# Altium footprint library TSSOP-20(6.5X4.4).PcbLib: 1 footprints
Each footprint in its own frame and in the unit in brackets; x right, y up, seen from the top. Pads: shape width x height; smd on the part's side, far side on the other; paste and mask are expansions set on the pad; w line width, h text height; cw(c..) or ccw(c..) is an arc to the next point about the centre after c.
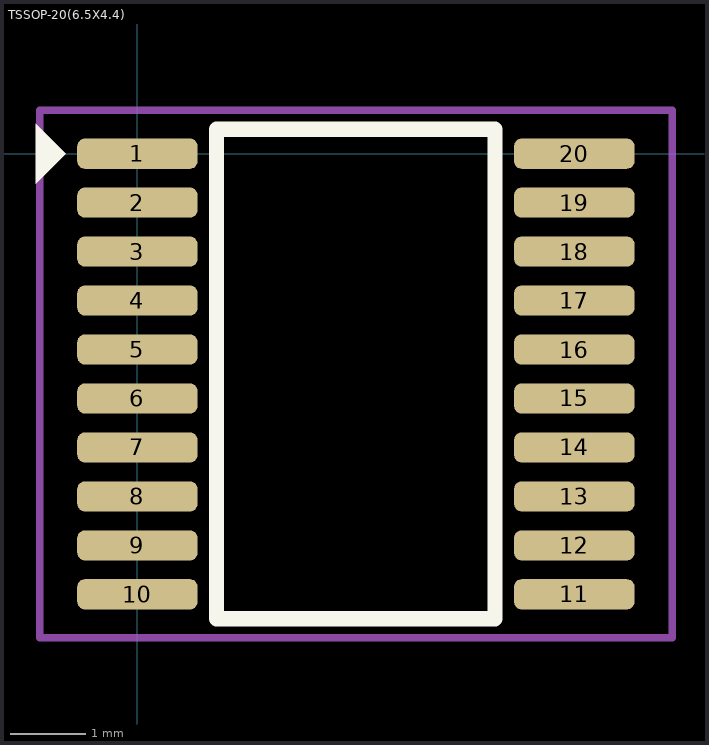
[diagram p0: the footprint, top view; thin cyan lines are the x and y axes]

## TSSOP-20(6.5X4.4) [mm]
pads (20):
  rrect50% 1.6x0.4 smd: 1(0,0) 2(0,-0.65) 3(0,-1.3) 4(0,-1.95) 5(0,-2.6) 6(0,-3.25) 7(0,-3.9) 8(0,-4.55) 9(0,-5.2) 10(0,-5.85) 11(5.8,-5.85) 12(5.8,-5.2) 13(5.8,-4.55) 14(5.8,-3.9) 15(5.8,-3.25) 16(5.8,-2.6) 17(5.8,-1.95) 18(5.8,-1.3) 19(5.8,-0.65) 20(5.8,0)
Top Overlay:
  region: -1.35,-0.4 -1.35,0.4 -0.95,0
  lines w0.2: 1.05,-6.175 4.75,-6.175 4.75,0.325 1.05,0.325 1.05,-6.175
Top Courtyard:
  lines w0.1: -1.3,-6.425 -1.3,0.575 7.1,0.575 7.1,-6.425 -1.3,-6.425
3D body "User Library-TSSOP-20-2.STEP": height 1.2, standoff 0, extent -0.3,-6.175 6.1,0.325